# Altium schematic symbol library SamacSys.SchLib: 18 symbols
Pins are listed as number, name and electrical type; pins without a type are passive.

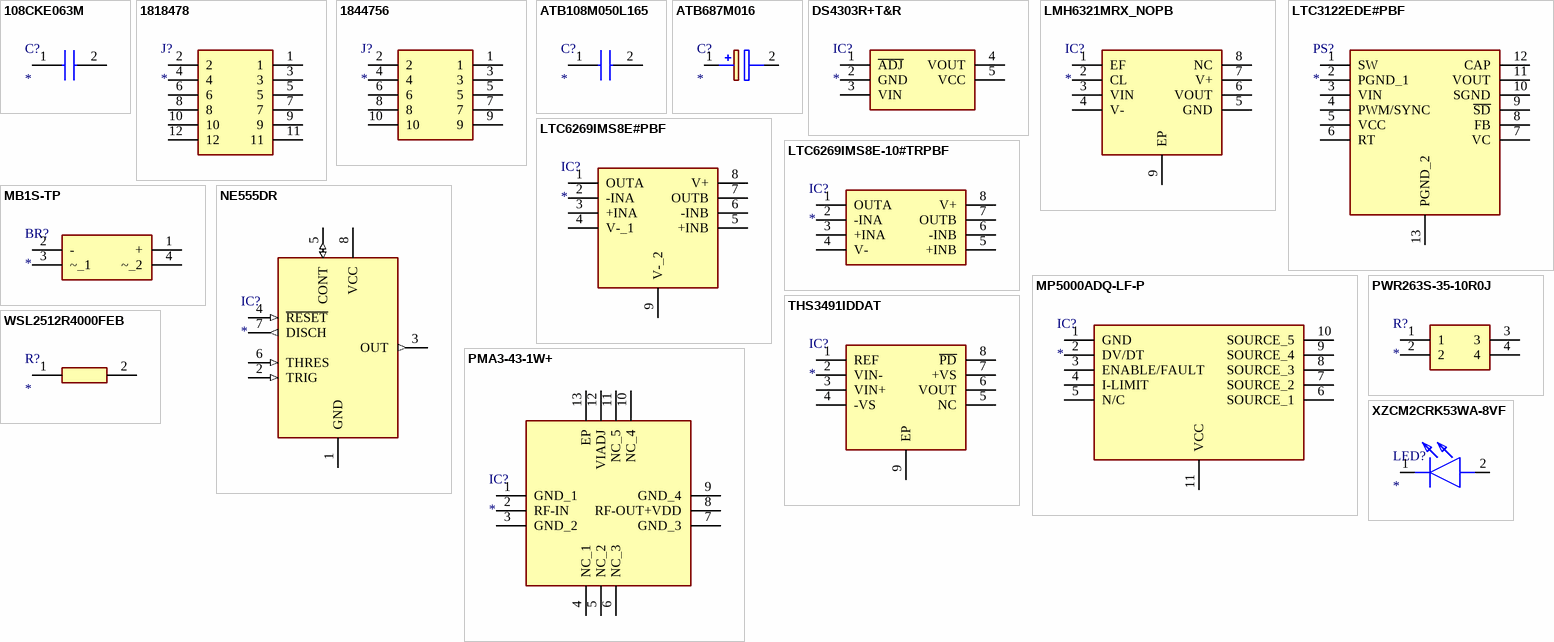
[diagram p0: symbols 108CKE063M to XZCM2CRK53WA-8VF]

## 108CKE063M
designator C?
Capacitor; Manufacturer_Name: Cornell Dubilier; Manufacturer_Part_Number: 108CKE063M; Datasheet Link: https://www.mouser.com/datasheet/2/88/CKH_CKE-2944644.pdf; Height: 27mm
footprint CAPPRD750W80D1625H2700
pins: 1 +, 2 -

## 1818478
designator J?
Connector; Manufacturer_Name: Phoenix Contact; Manufacturer_Part_Number: 1818478; Datasheet Link: http://www.phoenixcontact.com/de/produkte/1818478/pdf; Height: 10.95mm
footprint 1818478
pins: 1, 2, 3, 4, 5, 6, 7, 8, 9, 10, 11, 12

## 1844756
designator J?
Connector; Manufacturer_Name: Phoenix Contact; Manufacturer_Part_Number: 1844756; Datasheet Link: https://www.phoenixcontact.com/en-gb/products/pcb-header-dmc-05-5-g1-254-p20thr-r44-1844756; Height: 7.54mm; Mouser Part Number: 651-1844756; Mouser Price/Stock: https://www.mouser.co.uk/ProductDetail/Phoenix-Contact/1844756?qs=7PCaVhlmG1pfUb7jTLrqHg%3D%3D; Arrow Part Number: 1844756; Arrow Price/Stock: https://www.arrow.com/en/products/1844756/phoenix-contact?region=nac
footprint 1844756
pins: 1, 2, 3, 4, 5, 6, 7, 8, 9, 10

## ATB108M050L165
designator C?
Capacitor; Manufacturer_Name: Cornell Dubilier; Manufacturer_Part_Number: ATB108M050L165; Datasheet Link: https://www.digikey.com/en/products/detail/cornell-dubilier-knowles/ATB108M050L165/24616756?msockid=3e3afa68a50969ca3057ef1ca4c9684b; Height: 17mm; Mouser Part Number: 598-ATB108M050L165; Mouser Price/Stock: https://www.mouser.co.uk/ProductDetail/Cornell-Dubilier-CDE/ATB108M050L165?qs=IKkN%2F947nfCypllvMtU1oQ%3D%3D
footprint CAPAE1900X1700N
pins: 1 +, 2 -

## ATB687M016
designator C?
Capacitor Polarised; Manufacturer_Name: Cornell Dubilier; Manufacturer_Part_Number: ATB687M016; Datasheet Link: https://www.mouser.com/datasheet/2/88/ATB-3006753.pdf; Height: 10.5mm; Mouser Part Number: 598-ATB687M016; Mouser Price/Stock: https://www.mouser.co.uk/ProductDetail/Cornell-Dubilier-CDE/ATB687M016?qs=lc2O%252BfHJPVYofdrcEmobAw%3D%3D
footprint CAPAE1030X1050N
pins: 1 +, 2 -

## DS4303R+T&R
designator IC?
Integrated Circuit; Manufacturer_Name: Analog Devices; Manufacturer_Part_Number: DS4303R+T&R; Datasheet Link: https://www.analog.com/media/en/technical-documentation/data-sheets/DS4303-DS4303K.pdf; Height: 1.45mm; Mouser Part Number: 700-DS4303RT&R; Mouser Price/Stock: https://www.mouser.co.uk/ProductDetail/Maxim-Integrated/DS4303R%2bTR?qs=GxOUx7aO6nxIuOV3iB4%2F9Q%3D%3D
footprint SOT95P280X145-5N
pins: 1 ~{ADJ}, 2 GND, 3 VIN, 4 VOUT, 5 VCC

## LMH6321MRX_NOPB
designator IC?
Integrated Circuit; Manufacturer_Name: Texas Instruments; Manufacturer_Part_Number: LMH6321MRX/NOPB; Datasheet Link: https://www.ti.com/lit/gpn/lmh6321; Height: 1.7mm; Mouser Part Number: 926-LMH6321MRX/NOPB; Mouser Price/Stock: https://www.mouser.co.uk/ProductDetail/Texas-Instruments/LMH6321MRX-NOPB?qs=7lkVKPoqpbaVSXWvbQnRLw%3D%3D; Arrow Part Number: LMH6321MRX/NOPB; Arrow Price/Stock: https://www.arrow.com/en/products/lmh6321mrxnopb/texas-instruments?region=nac
footprint SOIC127P600X170-9N
pins: 1 EF, 2 CL, 3 VIN, 4 V-, 5 GND, 6 VOUT, 7 V+, 8 NC, 9 EP

## LTC3122EDE#PBF
designator PS?
Power Supply; Manufacturer_Name: Analog Devices; Manufacturer_Part_Number: LTC3122EDE#PBF; Datasheet Link: http://cds.linear.com/docs/en/datasheet/3122fa.pdf; Height: 0.8mm; Mouser Part Number: 584-LTC3122EDE#PBF; Mouser Price/Stock: https://www.mouser.co.uk/ProductDetail/Analog-Devices/LTC3122EDEPBF?qs=hVkxg5c3xu9qxchYbdzlwA%3D%3D; Arrow Part Number: LTC3122EDE#PBF; Arrow Price/Stock: https://www.arrow.com/en/products/ltc3122edepbf/analog-devices?region=nac
footprint SON50P300X400X80-13N-D
pins: 1 SW, 2 PGND_1, 3 VIN, 4 PWM/SYNC, 5 VCC, 6 RT, 7 VC, 8 FB, 9 ~{SD}, 10 SGND, 11 VOUT, 12 CAP, 13 PGND_2

## LTC6269IMS8E#PBF
designator IC?
Integrated Circuit; Manufacturer_Name: Analog Devices; Manufacturer_Part_Number: LTC6269IMS8E#PBF; Datasheet Link: https://www.analog.com/media/en/technical-documentation/data-sheets/62689f.pdf; Height: 1.1mm; Mouser Part Number: 584-LTC6269IMS8E#PBF; Mouser Price/Stock: https://www.mouser.co.uk/ProductDetail/Analog-Devices/LTC6269IMS8EPBF?qs=hVkxg5c3xu86wArHZ8S%2F6A%3D%3D; Arrow Part Number: LTC6269IMS8E#PBF; Arrow Price/Stock: https://www.arrow.com/en/products/ltc6269ims8epbf/analog-devices?region=nac
footprint SOP65P490X110-9N
pins: 1 OUTA, 2 -INA, 3 +INA, 4 V-_1, 5 +INB, 6 -INB, 7 OUTB, 8 V+, 9 V-_2

## LTC6269IMS8E-10#TRPBF
designator IC?
Integrated Circuit; Manufacturer_Name: Analog Devices; Manufacturer_Part_Number: LTC6269IMS8E-10#TRPBF; Datasheet Link: https://www.arrow.com/en/products/ltc6269ims8e-10trpbf/analog-devices; Height: 1.1mm; Mouser Part Number: 584-C6269IMS8E-10TPF; Mouser Price/Stock: https://www.mouser.co.uk/ProductDetail/Analog-Devices/LTC6269IMS8E-10TRPBF?qs=oahfZPh6IAIx%2FVof%252B0fFHQ%3D%3D; Arrow Part Number: LTC6269IMS8E-10#TRPBF; Arrow Price/Stock: https://www.arrow.com/en/products/ltc6269ims8e-10trpbf/analog-devices?region=nac
footprint SOP65P490X110-8N
pins: 1 OUTA, 2 -INA, 3 +INA, 4 V-, 5 +INB, 6 -INB, 7 OUTB, 8 V+

## MB1S-TP
designator BR?
Bridge Rectifier; Manufacturer_Name: MCC; Manufacturer_Part_Number: MB1S-TP; Datasheet Link: https://www.mccsemi.com/pdf/Products/MB05S_MB10S(MBS-1).pdf; Height: 2.9mm; Mouser Part Number: 833-MB1S-TP; Mouser Price/Stock: https://www.mouser.co.uk/ProductDetail/Micro-Commercial-Components-MCC/MB1S-TP?qs=O2qRfqcg9D9AE%252B%252BSWmQfPw%3D%3D; Arrow Part Number: MB1S-TP; Arrow Price/Stock: https://www.arrow.com/en/products/mb1s-tp/micro-commercial-components?region=nac
footprint MB1STP
pins: 1 +, 2 -, 3 ~_1, 4 ~_2

## MP5000ADQ-LF-P
designator IC?
Integrated Circuit; Manufacturer_Name: Monolithic Power Systems (MPS); Manufacturer_Part_Number: MP5000ADQ-LF-P; Datasheet Link: https://www.monolithicpower.com/en/documentview/productdocument/index/version/2/document_type/Datasheet/lang/en/sku/MP5000A/; Height: 1mm; Mouser Part Number: 946-MP5000ADQ-LF-P; Mouser Price/Stock: https://www.mouser.co.uk/ProductDetail/Monolithic-Power-Systems-MPS/MP5000ADQ-LF-P?qs=%252BZix9lVCYc%252BkK4nDbCRuaQ%3D%3D
footprint SON50P300X300X100-11N-D
pins: 1 GND, 2 DV/DT, 3 ENABLE/FAULT, 4 I-LIMIT, 5 N/C, 6 SOURCE_1, 7 SOURCE_2, 8 SOURCE_3, 9 SOURCE_4, 10 SOURCE_5, 11 VCC

## NE555DR
designator IC?
Integrated Circuit; Manufacturer_Name: Texas Instruments; Manufacturer_Part_Number: NE555DR; Datasheet Link: http://www.ti.com/lit/ds/symlink/ne555.pdf; Height: 1.75mm; Mouser Part Number: 595-NE555DR; Mouser Price/Stock: https://www.mouser.com/Search/Refine.aspx?Keyword=595-NE555DR; RS Part Number: 1218414; RS Price/Stock: http://uk.rs-online.com/web/p/products/1218414
footprint SOIC127P600X175-8N
pins: 1 GND (power), 2 TRIG (in), 3 OUT (out), 4 ~{RESET} (in), 5 CONT (io), 6 THRES (in), 7 DISCH (out), 8 VCC (power)

## PMA3-43-1W+
designator IC?
Integrated Circuit; Manufacturer_Name: Mini-Circuits; Manufacturer_Part_Number: PMA3-43-1W+; Datasheet Link: https://www.minicircuits.com/pdfs/PMA3-43-1W+.pdf; Height: 0.89mm
footprint QFN51P300X300X89-13N
pins: 1 GND_1, 2 RF-IN, 3 GND_2, 4 NC_1, 5 NC_2, 6 NC_3, 7 GND_3, 8 RF-OUT+VDD, 9 GND_4, 10 NC_4, 11 NC_5, 12 VIADJ, 13 EP

## PWR263S-35-10R0J
designator R?
Resistor; Manufacturer_Name: Bourns; Manufacturer_Part_Number: PWR263S-35-10R0J; Datasheet Link: https://www.bourns.com/docs/Product-Datasheets/PWR263S-35.pdf; Height: 4.88mm; Mouser Part Number: 652-PWR263S-35-10R0J; Mouser Price/Stock: https://www.mouser.com/Search/Refine.aspx?Keyword=652-PWR263S-35-10R0J; Arrow Part Number: PWR263S-35-10R0J; Arrow Price/Stock: https://www.arrow.com/en/products/pwr263s-35-10r0j/bourns
footprint PWR263S3510R0J
pins: 1, 2, 3, 4

## THS3491IDDAT
designator IC?
Integrated Circuit; Manufacturer_Name: Texas Instruments; Manufacturer_Part_Number: THS3491IDDAT; Datasheet Link: http://www.ti.com/lit/ds/symlink/ths3491.pdf; Height: 1.7mm; Mouser Part Number: 595-THS3491IDDAT; Mouser Price/Stock: https://www.mouser.co.uk/ProductDetail/Texas-Instruments/THS3491IDDAT?qs=YCa%2FAAYMW014V6lNX7J52A%3D%3D; Arrow Part Number: THS3491IDDAT; Arrow Price/Stock: https://www.arrow.com/en/products/ths3491iddat/texas-instruments?region=nac
footprint SOIC127P600X170-9N
pins: 1 REF, 2 VIN-, 3 VIN+, 4 -VS, 5 NC, 6 VOUT, 7 +VS, 8 ~{PD}, 9 EP

## WSL2512R4000FEB
designator R?
Resistor; Manufacturer_Name: Vishay; Manufacturer_Part_Number: WSL2512R4000FEB; Mouser Part Number: 71-WSL2512-0.4-E3; Mouser Price/Stock: https://www.mouser.com/Search/Refine.aspx?Keyword=71-WSL2512-0.4-E3; Arrow Part Number: WSL2512R4000FEB; Arrow Price/Stock: https://www.arrow.com/en/products/wsl2512r4000feb/vishay
footprint RESC6332X88N
pins: 1, 2

## XZCM2CRK53WA-8VF
designator LED?
LED; Manufacturer_Name: SunLED; Manufacturer_Part_Number: XZCM2CRK53WA-8VF; Description: 1.6X0.8MM LC RED PIXSOLED DOME S; Datasheet Link: https://datasheet.datasheetarchive.com/originals/distributors/Datasheets_SAMA/e996e994ade8bc327c2da19cfbdeeadc.pdf; Height: 1.1mm
footprint XZCFBB53W8VF
pins: 1 K, 2 A